# Altium schematic symbol library Schlib1.SchLib: 67 symbols (part 1 of 2)
Pins are listed as number, name and electrical type; pins without a type are passive.

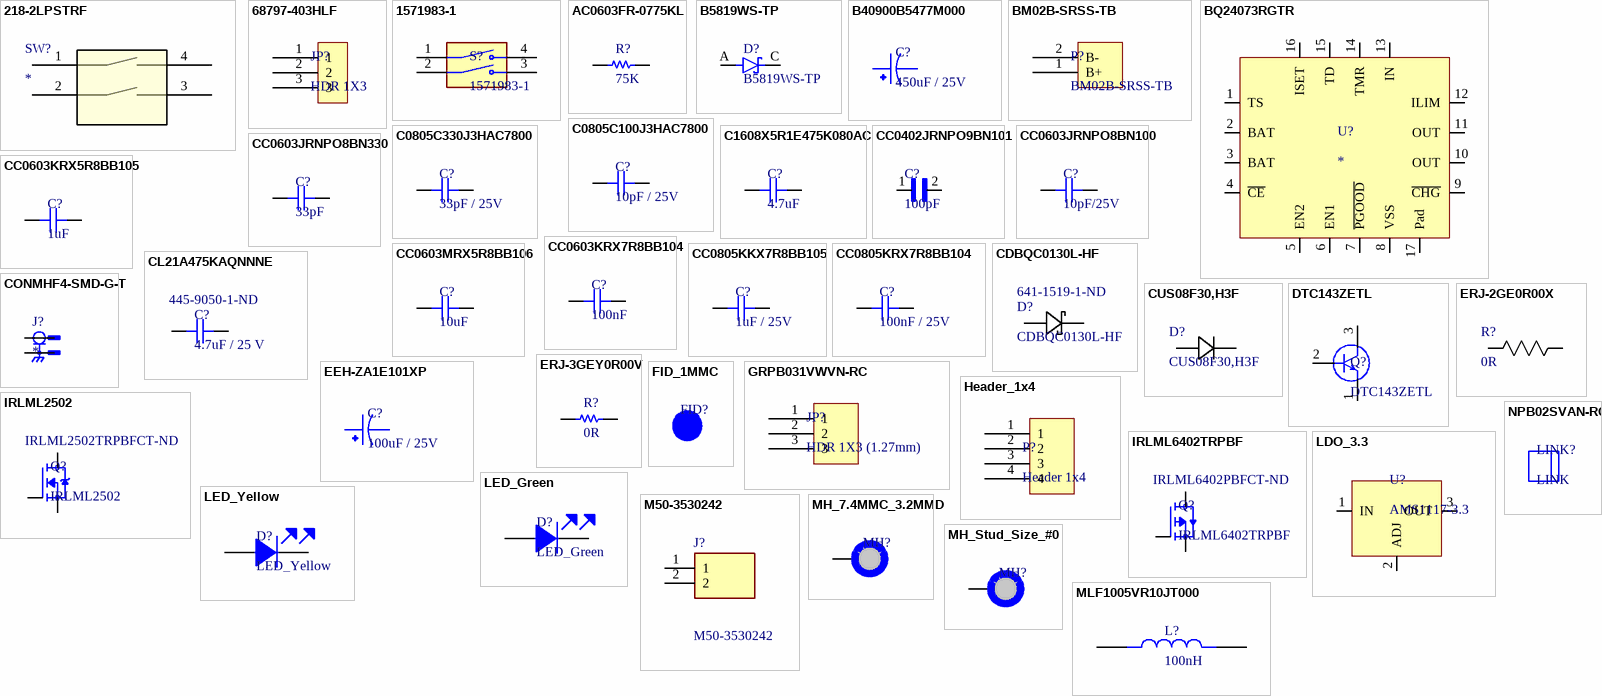
[diagram p0: symbols 218-2LPSTRF to NPB02SVAN-RC]

## 218-2LPSTRF
designator SW?
No Description Available; Mfr_Name: CTS Components; Type: DIP Switches; RefDes: RefDes
footprint 218-2-GULLWING_CTS
pins: 1, 2, 3, 4

## 68797-403HLF
designator JP?, comment HDR 1X3
Conn Unshrouded Header HDR 3 POS 2.54mm Solder ST Top Entry Thru-Hole BergStik® Bulk; Manufacturer: Amphenol ICC / FCI; Manufacturer Part Number: 68797-403HLF; Current Rating: 3A; Voltage Rating: 1.5kV; Number of Positions: 3; Insulation Resistance: 5GR; Gender: Male; Contact Post Length: 5.41mm; Supplier 1: Digikey; RoHS: Yes; Category: Connectors; Stock 1: 6537; Pricing 1: 1=0.26, 10=0.225, 100=0.1749, 500=0.14996, 1000=0.12496, 5000=0.10711, 10000=0.09997 (USD); Mount: Through Hole; Contact Material: Bronze; Contact Plating: Tin; Color: Black; Housing Color: Black; Housing Material: Thermoplastic; Min Operating Temperature: -65°C; Max Operating Temperature: 125°C; Number of Rows: 1; Contact Gender: Male; Packaging: Bulk; Package Quantity: 100; Termination: Solder; Number of Contacts: 3; Max Voltage Rating (AC): 1.5kV; Orientation: Straight; Series: BERGSTIK® II, MezzSelect™, Basics+; Contact Type: Male Pin; Length: 7.62mm; Pitch: 2.54mm; Contact Mating Length: 0.1inch; Depth: 2.41mm; Radiation Hardening: No; Flammability Rating: UL94 V-0; RoHS Compliant: Yes; ComponentLink1URL: http://components.arrow.com/part/dataview/42734829S8484744N8314?src-supplier=Arrow+Electronics; ComponentLink1Description: http://components.arrow.com/part/dataview/42734829S8484744N8314?src-supplier=Arrow+Electronics; ComponentLink2URL: http://www.mouser.com/ds/2/154/68000-274373.pdf?src-supplier=Mouser; ComponentLink2Description: http://www.mouser.com/ds/2/154/68000-274373.pdf?src-supplier=Mouser; ComponentLink3URL: http://portal.fciconnect.com/Comergent/fci/drawing/68000.pdf?src-supplier=Avnet; ComponentLink3Description: http://portal.fciconnect.com/Comergent/fci/drawing/68000.pdf?src-supplier=Avnet; Supplier Part Number 1: 609-68797-403HLF-ND
footprint Header_1x4_2.54mm
pins: 1, 2, 3

## 1571983-1
designator S?
Slide Dip Switch, 2 Switches, SPST, On-off, Latched, 0.1A, 50VDC, Solder Terminal, Panel Mount; Configuration_Pole-Throw: Single Pole - Single Throw; Contact_Current_Rating: .1 A; MF: TE Connectivity; Insulation Resistance: 100MR; Number of Circuits: 2NUMBER; Current Rating: 100mA; Row Spacing: 7.59mm; Switch_Type: DIP; SnapEDA_Link: https://www.snapeda.com/parts/1571983-1/TE+Connectivity+ALCOSWITCH+Switches/view-part/?ref=snap; Package: None; Value: *; MP: 1571983-1; Voltage_Rating: 50 VDC; Check_prices: https://www.snapeda.com/parts/1571983-1/TE+Connectivity+ALCOSWITCH+Switches/view-part/?ref=eda; Supplier 1: Digikey; Manufacturer: TE Connectivity; Manufacturer Part Number: 1571983-1; RoHS: Yes; Category: DIP Switches; Stock 1: 29284; Pricing 1: 1=2.12, 10=2.058, 25=1.872, 125=1.62624, 250=1.4738, 500=1.37216, 1000=1.27052, 2500=1.15194, 5000=1.06724 (USD); Reach SVHC Compliant: 4186SVHC; Supplier Part Number 1: 450-1431-ND
footprint SW_1571983-1
pins: 1 1A, 2 2A, 3 2B, 4 1B

## AC0603FR-0775KL
designator R?, comment 75K
SMD Chip Resistor, 75 kOhm, ± 1%, 100 mW, 0603 [1608 Metric], Thick Film, General Purpose; Manufacturer: Yageo; Manufacturer Part Number: AC0603FR-0775KL; Supplier 1: Digikey; RoHS: Yes; Category: Chip SMD Resistors; Stock 1: 529738; Pricing 1: 1=0.1, 10=0.021, 50=0.013, 100=0.0108, 500=0.00734, 1000=0.00633 (USD); Lead Free: 5697LeadFree; ComponentLink1URL: https://datasheet.ciiva.com/26862/getdatasheetpartid-715372-26862468.pdf?src-supplier=Verical; ComponentLink1Description: https://datasheet.ciiva.com/26862/getdatasheetpartid-715372-26862468.pdf?src-supplier=Verical; Supplier Part Number 1: YAG3629CT-ND
footprint R0603
pins: 1, 2

## B5819WS-TP
designator D?
Rectifier Diode, Schottky, 1 Phase, 1 Element, 1A, 40V V(RRM), Silicon; Manufacturer: MCC; Max Surge Current: 10A; Forward Voltage: 900mV; Max Reverse Leakage Current: 1mA; Capacitance: 48pF; Max Reverse Current: 7uA; Availability: Unavailable; MP: B5819WS-TP; Price: None; Value: *; Package: None; Supplier 1: Arrow Electronics; Manufacturer Part Number: B5819WS-TP; RoHS: Yes; Category: Rectifier Diodes; Stock 1: 42000; Pricing 1: 3000=0.0241 (USD); Mount: Surface Mount; Number of Pins: 2; Min Operating Temperature: -65°C; Max Operating Temperature: 125°C; Packaging: Tape and Reel; Average Rectified Current: 1A; Peak Non-Repetitive Surge Current: 10A; Max Reverse Voltage (DC): 40V; Series: -; Forward Current: 1A; Max Forward Surge Current (Ifsm): 10A; Reverse Voltage: 40V; Height: 1.15mm; Radiation Hardening: No; Lead Free: Lead Free; RoHS Compliant: Yes; ComponentLink1URL: https://datasheet.ciiva.com/4715/b5817ws-b5819wssod-323-48861-4715941.pdf?src-supplier=Mouser; ComponentLink1Description: https://datasheet.ciiva.com/4715/b5817ws-b5819wssod-323-48861-4715941.pdf?src-supplier=Mouser; ComponentLink2URL: https://datasheet.ciiva.com/15200/getdatasheetpartid-184930-15200423.pdf?src-supplier=Verical; ComponentLink2Description: https://datasheet.ciiva.com/15200/getdatasheetpartid-184930-15200423.pdf?src-supplier=Verical; ComponentLink3URL: https://datasheet.ciiva.com/912/b5817ws-b5819wssod-323-912736.pdf?src-supplier=Digikey; ComponentLink3Description: https://datasheet.ciiva.com/912/b5817ws-b5819wssod-323-912736.pdf?src-supplier=Digikey; ComponentLink4URL: https://datasheet.ciiva.com/912/b5817ws-b5819wssod-323-912737.pdf?src-supplier=Digikey; ComponentLink4Description: https://datasheet.ciiva.com/912/b5817ws-b5819wssod-323-912737.pdf?src-supplier=Digikey; ComponentLink5URL: https://datasheet.ciiva.com/912/b5817ws-b5819wssod-323-912735.pdf?src-supplier=Digikey; ComponentLink5Description: https://datasheet.ciiva.com/912/b5817ws-b5819wssod-323-912735.pdf?src-supplier=Digikey; Supplier Part Number 1: B5819WS-TP; Supplier 2: Digikey; Stock 2: 757540; Pricing 2: 1=0.27, 10=0.186, 100=0.0907, 500=0.07562, 1000=0.05254 (USD); Supplier Part Number 2: B5819WS-TPMSCT-ND
footprint SOD2512X115N
pins: A, C K

## B40900B5477M000
designator C?, comment 450uF / 25V
Capacitor Aluminum Polymer 470uF 25V 20% Radial Leaded PC Pin 3.2A 4000hr 125°C T/R; Manufacturer: TDK; Manufacturer Part Number: B40900B5477M000; ESR (Equivalent Series Resistance): 18mR; Supplier 1: Digikey; RoHS: Yes; Category: Polymer Capacitors; Stock 1: 10440; Pricing 1: 1=2.22, 10=1.702, 50=1.5638, 100=1.2966 (USD); Mount: Surface Mount; Case/Package: Radial; Min Operating Temperature: -40°C; Max Operating Temperature: 125°C; Series: B40900; Tolerance: 20%; Capacitance: 470uF; Voltage Rating: 25V; Length: 12.5mm; Ratings: AEC-Q200; RoHS Compliant: Yes; Supplier Part Number 1: 495-B40900B5477M000CT-ND
footprint CAP_B40900B5477M000
pins: 1 P, 2 N

## BM02B-SRSS-TB
designator P?
CONN HEADER SH 2POS TOP 1MM TIN; Manufacturer: JST; Number of Positions: 2; Pitch: 0.039inch; Supplier 1: Digikey; Manufacturer Part Number: BM02B-SRSS-TB; RoHS: Yes; Category: Headers and Wire Housings; Stock 1: 56625; Pricing 1: 1=0.45, 10=0.395, 100=0.3253, 500=0.28286 (USD); Mount: Surface Mount; Color: Natural; Contact Plating: Tin,Lead; Contact Material: Copper Alloy; Housing Color: Natural; Housing Material: Nylon; Number of Rows: 1; Termination: Solder; Orientation: Vertical; Series: SR; Package Quantity: 1; Packaging: Cut Tape; Contact Type: Male Pin; Number of Contacts: 2; Lead Free: Contains Lead; ComponentLink1URL: https://datasheet.ciiva.com/6892/srconnector-6892266.pdf?src-supplier=Digikey; ComponentLink1Description: https://datasheet.ciiva.com/6892/srconnector-6892266.pdf?src-supplier=Digikey; ComponentLink2URL: https://datasheet.ciiva.com/6892/srconnector-6892264.pdf?src-supplier=Digikey; ComponentLink2Description: https://datasheet.ciiva.com/6892/srconnector-6892264.pdf?src-supplier=Digikey; Supplier Part Number 1: 455-1788-1-ND
footprint BM02B-SRSS-TB
pins: 1 B+, 2 B-

## BQ24073RGTR
designator U?
1.5A USB-FRIENDLY Li-Ion BATTERY CHARGER AND POWER-PATH MANAGEMENT IC
footprint bq24073 (QFN, 16-Leads, Body 3.00x3.00mm, Pitch 0.50mm, Thermal Pad 1.70x1.70mm, IPC Medium Density)
pins: 1 TS, 2 BAT, 3 BAT, 4 ~{CE}, 5 EN2, 6 EN1, 7 ~{PGOOD}, 8 VSS, 9 ~{CHG}, 10 OUT, 11 OUT, 12 ILIM, 13 IN, 14 TMR, 15 TD, 16 ISET, 17 Pad

## C0805C100J3HAC7800
designator C?, comment 10pF / 25V
Cap Cer 0805 10PF 25V Ultra Stab; Manufacturer: KEMET; Manufacturer Part Number: C0805C100J3HAC7800; Supplier 1: Digikey; RoHS: No; Category: Ceramic Capacitors; Stock 1: 20028; Pricing 1: 1=0.1, 10=0.069, 50=0.0394, 100=0.0305, 500=0.02298, 1000=0.01805 (USD); Supplier Part Number 1: 399-C0805C100J3HAC7800CT-ND
footprint C0805
pins: 1, 2

## C0805C330J3HAC7800
designator C?, comment 33pF / 25V
CAP CER 33PF 25V X8R 0805; Manufacturer: KEMET; Manufacturer Part Number: C0805C330J3HAC7800; Supplier 1: Digikey; RoHS: No; Category: Ceramic Capacitors; Stock 1: 11940; Pricing 1: 1=0.1, 10=0.07, 50=0.04, 100=0.031, 500=0.02334, 1000=0.01833 (USD); Supplier Part Number 1: 399-C0805C330J3HAC7800CT-ND
footprint C0805
pins: 1, 2

## C1608X5R1E475K080AC
designator C?, comment 4.7uF
Multilayer Ceramic Capacitor, 4.7 uF, 25 V, ± 10%, X5R, 0603 [1608 Metric]
footprint C0603
pins: 1, 2

## CC0402JRNPO9BN101
designator C?, comment 100pF
Multilayer Ceramic Capacitor, 100 pF, 50 V, ± 5%, C0G (NP0), 0402 [1005 Metric]; Manufacturer: Yageo; MP: CC0402JRNPO9BN101; Voltage Rating: 50V; Temperature Coefficient: 30ppm/°C; Package: None; Price: None; Value: *; Availability: Unavailable; Supplier 1: Digikey; Manufacturer Part Number: CC0402JRNPO9BN101; RoHS: Yes; Category: Ceramic Capacitors; Stock 1: 8990540; Pricing 1: 1=0.1, 10=0.017, 50=0.0096, 100=0.0074, 500=0.00554, 1000=0.00436, 2500=0.00396, 5000=0.00365 (USD); Mount: Surface Mount; Case/Package: 0402; Number of Pins: 2; Case Code (Imperial): 0402; Case Code (Metric): 1005; Min Operating Temperature: -55°C; Max Operating Temperature: 125°C; Tolerance: 5%; Capacitance: 100pF; Dielectric: C0G; Voltage Rating (DC): 50V; Packaging: Tape and Reel; Package Quantity: 1; Termination: SMD/SMT; Voltage: 50V; Series: CC; Length: 1mm; Width: 0.02inch; Height: 0.5mm; Thickness: 0.022inch; Depth: 0.5mm; Radiation Hardening: No; RoHS Compliant: Yes; Reach SVHC Compliant: No; ComponentLink1URL: https://datasheet.ciiva.com/11786/0900766b80d84fbf-11786101.pdf?src-supplier=Rs; ComponentLink1Description: https://datasheet.ciiva.com/11786/0900766b80d84fbf-11786101.pdf?src-supplier=Rs; ComponentLink2URL: https://datasheet.ciiva.com/23767/25787-23767888.pdf?src-supplier=Newark; ComponentLink2Description: https://datasheet.ciiva.com/23767/25787-23767888.pdf?src-supplier=Newark; ComponentLink3URL: https://datasheet.ciiva.com/8033/1443161-8033598.pdf?src-supplier=Element14; ComponentLink3Description: https://datasheet.ciiva.com/8033/1443161-8033598.pdf?src-supplier=Element14; ComponentLink4URL: https://datasheet.ciiva.com/28450/1443161-28450220.pdf?src-supplier=Element14; ComponentLink4Description: https://datasheet.ciiva.com/28450/1443161-28450220.pdf?src-supplier=Element14; ComponentLink5URL: https://datasheet.ciiva.com/143/mlccorderingcode-143990.pdf?src-supplier=Digikey; ComponentLink5Description: https://datasheet.ciiva.com/143/mlccorderingcode-143990.pdf?src-supplier=Digikey; ComponentLink6URL: https://datasheet.ciiva.com/143/mlccorderingcode-143989.pdf?src-supplier=Digikey; ComponentLink6Description: https://datasheet.ciiva.com/143/mlccorderingcode-143989.pdf?src-supplier=Digikey; ComponentLink7URL: https://datasheet.ciiva.com/143/mlccorderingcode-143991.pdf?src-supplier=Digikey; ComponentLink7Description: https://datasheet.ciiva.com/143/mlccorderingcode-143991.pdf?src-supplier=Digikey; Supplier Part Number 1: 311-1024-1-ND
footprint CAPC1005X55N
pins: 1, 2

## CC0603JRNPO8BN100
designator C?, comment 10pF/25V
Surface Mount Ceramic Multilayer Capacitor 10pF 5% C0G 25V 0603 Paper T/R; Manufacturer: Yageo; Manufacturer Part Number: CC0603JRNPO8BN100; Supplier 1: Digikey; RoHS: Yes; Category: Ceramic Capacitors; Stock 1: 12320; Pricing 1: 1=0.1, 10=0.049, 50=0.028, 100=0.0217, 500=0.0163, 1000=0.0128 (USD); Supplier Part Number 1: 13-CC0603JRNPO8BN100CT-ND
footprint C0603
pins: 1, 2

## CC0603JRNPO8BN330
designator C?, comment 33pF
CAP CER 33PF 25V NPO 0603; Manufacturer: Yageo; Manufacturer Part Number: CC0603JRNPO8BN330; Tolerance: 5%; Dielectric: C0G; Supplier 1: Digikey; RoHS: Yes; Category: Ceramic Capacitors; Stock 1: 18128; Pricing 1: 1=0.1, 10=0.049, 50=0.028, 100=0.0217, 500=0.0163, 1000=0.0128 (USD); Mount: Surface Mount; Case/Package: 0603; Case Code (Imperial): 0603; Case Code (Metric): 1608; Min Operating Temperature: -55°C; Max Operating Temperature: 125°C; Capacitance: 33pF; Voltage Rating (DC): 25V; Packaging: Tape and Reel; Voltage Rating: 25V; Series: CC; Length: 0.063inch; Width: 0.031inch; Thickness: 0.035inch; RoHS Compliant: Yes; ComponentLink1URL: https://datasheet.ciiva.com/13210/upy-gp-np0-16v-to-50v-8-13210829.pdf?src-supplier=Mouser; ComponentLink1Description: https://datasheet.ciiva.com/13210/upy-gp-np0-16v-to-50v-8-13210829.pdf?src-supplier=Mouser; Supplier Part Number 1: 311-3954-1-ND
footprint C0603
pins: 1, 2

## CC0603KRX5R8BB105
designator C?, comment 1uF
Multilayer Ceramic Capacitor, 1 uF, 25 V, ± 10%, X5R, 0603 [1608 Metric]; Manufacturer: Yageo; Manufacturer Part Number: CC0603KRX5R8BB105; Material: 4241ConductorMaterial; Voltage Rating: 25V; Supplier 1: Digikey; RoHS: Yes; Category: Ceramic Capacitors; Stock 1: 2493288; Pricing 1: 1=0.1, 10=0.07, 50=0.0418, 100=0.0329, 500=0.02428, 1000=0.0201 (USD); Mount: Surface Mount; Case/Package: 0603; Number of Pins: 2; Case Code (Metric): 1608; Case Code (Imperial): 0603; Min Operating Temperature: -55°C; Max Operating Temperature: 85°C; Capacitance: 1uF; Tolerance: 10%; Dielectric: X5R; Packaging: Tape and Reel; Termination: SMD/SMT; Series: CC; Construction: Flat; Voltage Rating (DC): 25V; Length: 1.6mm; Height: 0.8mm; Depth: 0.8mm; Radiation Hardening: No; Reach SVHC Compliant: No; RoHS Compliant: Yes; Halogen Free: 5694HalogenFree; Lead Free: 5697LeadFree; ComponentLink1URL: https://datasheet.ciiva.com/7978/1525783-7978171.pdf?src-supplier=Element14; ComponentLink1Description: https://datasheet.ciiva.com/7978/1525783-7978171.pdf?src-supplier=Element14; ComponentLink2URL: https://datasheet.ciiva.com/176/mlccorderingcode-176786.pdf?src-supplier=Digikey; ComponentLink2Description: https://datasheet.ciiva.com/176/mlccorderingcode-176786.pdf?src-supplier=Digikey; ComponentLink3URL: https://datasheet.ciiva.com/176/mlccorderingcode-176785.pdf?src-supplier=Digikey; ComponentLink3Description: https://datasheet.ciiva.com/176/mlccorderingcode-176785.pdf?src-supplier=Digikey; ComponentLink4URL: https://datasheet.ciiva.com/176/mlccorderingcode-176787.pdf?src-supplier=Digikey; ComponentLink4Description: https://datasheet.ciiva.com/176/mlccorderingcode-176787.pdf?src-supplier=Digikey; ComponentLink5URL: https://datasheet.ciiva.com/11586/upy-gphc-x5r-4v-to-50v-12-11586318.pdf?src-supplier=Avnet; ComponentLink5Description: https://datasheet.ciiva.com/11586/upy-gphc-x5r-4v-to-50v-12-11586318.pdf?src-supplier=Avnet; Supplier Part Number 1: 311-1445-1-ND
footprint C0603
pins: 1, 2

## CC0603KRX7R8BB104
designator C?, comment 100nF
Multilayer Ceramic Capacitor, 0.1 uF, 25 V, ± 10%, X7R, 0603 [1608 Metric]; Manufacturer: Yageo; Manufacturer Part Number: CC0603KRX7R8BB104; Material: 4241ConductorMaterial; Voltage Rating: 25V; Supplier 1: Digikey; RoHS: Yes; Category: Ceramic Capacitors; Stock 1: 3824386; Pricing 1: 1=0.1, 10=0.042, 50=0.0238, 100=0.0185, 500=0.01392, 1000=0.01094 (USD); Mount: Surface Mount; Case/Package: 0603; Number of Pins: 2; Case Code (Imperial): 0603; Case Code (Metric): 1608; Min Operating Temperature: -55°C; Max Operating Temperature: 125°C; Capacitance: 100nF; Tolerance: 10%; Dielectric: X7R; Packaging: Tape and Reel; Package Quantity: 1; Voltage Rating (DC): 25V; Termination: SMD/SMT; Voltage: 25V; Series: CC; Length: 1.6mm; Width: 0.031inch; Height: 0.8mm; Thickness: 0.035inch; Depth: 0.8mm; Radiation Hardening: No; RoHS Compliant: Yes; Reach SVHC Compliant: Unknown; Halogen Free: 5694HalogenFree; Lead Free: 5697LeadFree; ComponentLink1URL: https://datasheet.ciiva.com/144/mlccorderingcode-144075.pdf?src-supplier=Digikey; ComponentLink1Description: https://datasheet.ciiva.com/144/mlccorderingcode-144075.pdf?src-supplier=Digikey; ComponentLink2URL: https://datasheet.ciiva.com/11786/0900766b80c10176-11786120.pdf?src-supplier=Rs; ComponentLink2Description: https://datasheet.ciiva.com/11786/0900766b80c10176-11786120.pdf?src-supplier=Rs; ComponentLink3URL: https://datasheet.ciiva.com/13389/upy-gphc-x7r-6-3v-to-50v-8-13389352.pdf?src-supplier=Mouser; ComponentLink3Description: https://datasheet.ciiva.com/13389/upy-gphc-x7r-6-3v-to-50v-8-13389352.pdf?src-supplier=Mouser; ComponentLink4URL: https://datasheet.ciiva.com/7978/1489800-7978155.pdf?src-supplier=Element14; ComponentLink4Description: https://datasheet.ciiva.com/7978/1489800-7978155.pdf?src-supplier=Element14; ComponentLink5URL: https://datasheet.ciiva.com/28450/1489800-28450584.pdf?src-supplier=Element14; ComponentLink5Description: https://datasheet.ciiva.com/28450/1489800-28450584.pdf?src-supplier=Element14; ComponentLink6URL: https://datasheet.ciiva.com/144/mlccorderingcode-144074.pdf?src-supplier=Digikey; ComponentLink6Description: https://datasheet.ciiva.com/144/mlccorderingcode-144074.pdf?src-supplier=Digikey; ComponentLink7URL: https://datasheet.ciiva.com/144/mlccorderingcode-144073.pdf?src-supplier=Digikey; ComponentLink7Description: https://datasheet.ciiva.com/144/mlccorderingcode-144073.pdf?src-supplier=Digikey; ComponentLink8URL: https://datasheet.ciiva.com/11587/upy-gphc-x7r-6-3v-to-50v-8-11587208.pdf?src-supplier=Avnet; ComponentLink8Description: https://datasheet.ciiva.com/11587/upy-gphc-x7r-6-3v-to-50v-8-11587208.pdf?src-supplier=Avnet; ComponentLink9URL: https://datasheet.ciiva.com/26829/getdatasheetpartid-403577-26829431.pdf?src-supplier=Verical; ComponentLink9Description: https://datasheet.ciiva.com/26829/getdatasheetpartid-403577-26829431.pdf?src-supplier=Verical; Supplier Part Number 1: 311-1341-1-ND
footprint C0603
pins: 1, 2

## CC0603MRX5R8BB106
designator C?, comment 10uF
Multilayer Ceramic Capacitor, 10 uF, 25 V, ± 20%, X5R, 0603 [1608 Metric]; Manufacturer: Yageo; Manufacturer Part Number: CC0603MRX5R8BB106; Voltage Rating: 25V; Dielectric: 1537DielectricType; Supplier 1: Digikey; RoHS: Yes; Category: Ceramic Capacitors; Stock 1: 17488; Pricing 1: 1=0.68, 10=0.474, 50=0.3988, 100=0.3248, 500=0.27068, 1000=0.22794 (USD); Mount: Surface Mount; Case/Package: 0603; Case Code (Imperial): 0603; Case Code (Metric): 1608; Min Operating Temperature: -55°C; Max Operating Temperature: 85°C; Packaging: Cut Tape; Capacitance: 10uF; Tolerance: 20%; Series: CC; Voltage Rating (DC): 25V; RoHS Compliant: Yes; Halogen Free: 5694HalogenFree; Lead Free: 5697LeadFree; ComponentLink1URL: https://www.yageo.com/upload/media/product/productsearch/datasheet/mlcc/UPY-GPHC_X5R_4V-to-50V_26.pdf?src-supplier=Digikey; ComponentLink1Description: https://www.yageo.com/upload/media/product/productsearch/datasheet/mlcc/UPY-GPHC_X5R_4V-to-50V_26.pdf?src-supplier=Digikey; Supplier Part Number 1: 311-3494-1-ND
footprint C0603
pins: 1, 2

## CC0805KKX7R8BB105
designator C?, comment 1uF / 25V
Multilayer Ceramic Capacitor, 1 uF, 25 V, ± 10%, X7R, 0805 [2012 Metric]; Manufacturer: Yageo; Manufacturer Part Number: CC0805KKX7R8BB105; Material: 4241ConductorMaterial; Supplier 1: Digikey; RoHS: Yes; Category: Ceramic Capacitors; Stock 1: 95511; Pricing 1: 1=0.14, 10=0.098, 50=0.0584, 100=0.0459, 500=0.03388, 1000=0.02805 (USD); ComponentLink1URL: https://datasheet.ciiva.com/5427/upy-gp-np0-16v-to-50v-8-5427414.pdf?src-supplier=Mouser; ComponentLink1Description: https://datasheet.ciiva.com/5427/upy-gp-np0-16v-to-50v-8-5427414.pdf?src-supplier=Mouser; ComponentLink2URL: https://datasheet.ciiva.com/28450/1489800-28450764.pdf?src-supplier=Element14; ComponentLink2Description: https://datasheet.ciiva.com/28450/1489800-28450764.pdf?src-supplier=Element14; ComponentLink3URL: https://datasheet.ciiva.com/7978/1489800-7978205.pdf?src-supplier=Element14; ComponentLink3Description: https://datasheet.ciiva.com/7978/1489800-7978205.pdf?src-supplier=Element14; ComponentLink4URL: https://datasheet.ciiva.com/176/mlccorderingcode-176960.pdf?src-supplier=Digikey; ComponentLink4Description: https://datasheet.ciiva.com/176/mlccorderingcode-176960.pdf?src-supplier=Digikey; ComponentLink5URL: https://datasheet.ciiva.com/176/mlccorderingcode-176961.pdf?src-supplier=Digikey; ComponentLink5Description: https://datasheet.ciiva.com/176/mlccorderingcode-176961.pdf?src-supplier=Digikey; ComponentLink6URL: https://datasheet.ciiva.com/176/mlccorderingcode-176962.pdf?src-supplier=Digikey; ComponentLink6Description: https://datasheet.ciiva.com/176/mlccorderingcode-176962.pdf?src-supplier=Digikey; Supplier Part Number 1: 311-1456-1-ND
footprint C0805
pins: 1, 2

## CC0805KRX7R8BB104
designator C?, comment 100nF / 25V
Multilayer Ceramic Capacitor, 0.1 uF, 25 V, ± 10%, X7R, 0805 [2012 Metric]; Manufacturer: Yageo; Manufacturer Part Number: CC0805KRX7R8BB104; Supplier 1: Digikey; RoHS: Yes; Category: Ceramic Capacitors; Stock 1: 201020; Pricing 1: 1=0.11, 10=0.073, 50=0.0438, 100=0.0344, 500=0.02542, 1000=0.02104 (USD); ComponentLink1URL: https://datasheet.ciiva.com/8034/1784427-8034030.pdf?src-supplier=Element14; ComponentLink1Description: https://datasheet.ciiva.com/8034/1784427-8034030.pdf?src-supplier=Element14; ComponentLink2URL: https://datasheet.ciiva.com/28450/1489800-28450789.pdf?src-supplier=Element14; ComponentLink2Description: https://datasheet.ciiva.com/28450/1489800-28450789.pdf?src-supplier=Element14; ComponentLink3URL: https://datasheet.ciiva.com/8034/1784427-8034029.pdf?src-supplier=Element14; ComponentLink3Description: https://datasheet.ciiva.com/8034/1784427-8034029.pdf?src-supplier=Element14; ComponentLink4URL: https://datasheet.ciiva.com/8034/70765-8034031.pdf?src-supplier=Element14; ComponentLink4Description: https://datasheet.ciiva.com/8034/70765-8034031.pdf?src-supplier=Element14; ComponentLink5URL: https://datasheet.ciiva.com/46430/1850775-46430166.pdf?src-supplier=Element14; ComponentLink5Description: https://datasheet.ciiva.com/46430/1850775-46430166.pdf?src-supplier=Element14; ComponentLink6URL: https://datasheet.ciiva.com/15189/getdatasheetpartid-330244-15189223.pdf?src-supplier=Verical; ComponentLink6Description: https://datasheet.ciiva.com/15189/getdatasheetpartid-330244-15189223.pdf?src-supplier=Verical; ComponentLink7URL: https://datasheet.ciiva.com/145/mlccorderingcode-145007.pdf?src-supplier=Digikey; ComponentLink7Description: https://datasheet.ciiva.com/145/mlccorderingcode-145007.pdf?src-supplier=Digikey; ComponentLink8URL: https://datasheet.ciiva.com/145/mlccorderingcode-145008.pdf?src-supplier=Digikey; ComponentLink8Description: https://datasheet.ciiva.com/145/mlccorderingcode-145008.pdf?src-supplier=Digikey; ComponentLink9URL: https://datasheet.ciiva.com/145/mlccorderingcode-145009.pdf?src-supplier=Digikey; ComponentLink9Description: https://datasheet.ciiva.com/145/mlccorderingcode-145009.pdf?src-supplier=Digikey; Supplier Part Number 1: 311-1141-1-ND
footprint C0805
pins: 1, 2

## CDBQC0130L-HF
designator D?  Supplier Part Number 1: 641-1519-1-ND
Rectifier Diode Schottky 35V 0.1A 2-Pin SOD-923F T/R; Mfr_Name: Comchip; Average Rectified Current: 100mA; Max Reverse Voltage (DC): 30V; Supplier 1: Digikey; Manufacturer: Comchip; Manufacturer Part Number: CDBQC0130L-HF; RoHS: Yes; Category: Rectifier Diodes; Stock 1: 109193; Pricing 1: 1=0.34, 10=0.236, 100=0.1192, 500=0.09722, 1000=0.07213, 2000=0.06069 (USD); Mount: Surface Mount; Case/Package: 0402; Case Code (Metric): 1005; Case Code (Imperial): 0402; Packaging: Cut Tape; Series: -; RoHS Compliant: Yes; ComponentLink1URL: http://www.comchiptech.com/cms/UserFiles/CDBQC0130L-HF%20RevC738209.pdf?src-supplier=Arrow+Electronics; ComponentLink1Description: http://www.comchiptech.com/cms/UserFiles/CDBQC0130L-HF%20RevC738209.pdf?src-supplier=Arrow+Electronics; ComponentLink2URL: http://www.comchiptech.com/cms/UserFiles/CDBQC0130L-HF%20RevC738209.pdf?src-supplier=Mouser; ComponentLink2Description: http://www.comchiptech.com/cms/UserFiles/CDBQC0130L-HF%20RevC738209.pdf?src-supplier=Mouser; ComponentLink3URL: http://www.comchiptech.com/cms/UserFiles/CDBQC0130L-HF%20RevC738209.pdf?src-supplier=Verical; ComponentLink3Description: http://www.comchiptech.com/cms/UserFiles/CDBQC0130L-HF%20RevC738209.pdf?src-supplier=Verical; ComponentLink4URL: http://www.comchiptech.com/cms/UserFiles/CDBQC0130L-HF%20RevB681116.pdf?src-supplier=Digikey; ComponentLink4Description: http://www.comchiptech.com/cms/UserFiles/CDBQC0130L-HF%20RevB681116.pdf?src-supplier=Digikey; ComponentLink5URL: http://www.comchiptech.com/admin/files/product/CDBQC0130L-HF RevB681116.pdf?src-supplier=Digikey; ComponentLink5Description: http://www.comchiptech.com/admin/files/product/CDBQC0130L-HF RevB681116.pdf?src-supplier=Digikey; ComponentLink6URL: http://www.comchiptech.com/cms/UserFiles/CDBQC0130L-HF%20RevC738209.pdf?src-supplier=NAC+Semi; ComponentLink6Description: http://www.comchiptech.com/cms/UserFiles/CDBQC0130L-HF%20RevC738209.pdf?src-supplier=NAC+Semi
footprint SDO_0402CSOD-923F_CIP
pins: 1, 2

## CL21A475KAQNNNE
designator C?, comment 4.7uF / 25 V  Supplier Part Number 2: 445-9050-1-ND
Multilayer Ceramic Capacitor, 4.7 uF, 25 V, ± 10%, X5R, 0603 [1608 Metric]; Manufacturer: Samsung; Manufacturer Part Number: CL21A475KAQNNNE; Voltage Rating: 25V; Supplier 1: Digikey; RoHS: Yes; Category: Ceramic Capacitors; Stock 1: 3225336; Pricing 1: 1=0.1, 10=0.069, 50=0.0414, 100=0.0326, 500=0.02408, 1000=0.01994 (USD); Mount: Surface Mount; Case/Package: 0805; Case Code (Metric): 2012; Case Code (Imperial): 0805; Material: Ceramic; Min Operating Temperature: -55°C; Max Operating Temperature: 85°C; Packaging: Tape and Reel; Capacitance: 4.7uF; Tolerance: 10%; Dielectric: X5R; Voltage Rating (DC): 25V; Series: CL; Construction: Flat; Length: 2mm; Height: 1.25mm; Depth: 1.25mm; Radiation Hardening: No; Lead Free: Lead Free; RoHS Compliant: Yes; ComponentLink1URL: https://datasheet.ciiva.com/25798/cl21a475kaqnnne-25798882.pdf?src-supplier=Digikey; ComponentLink1Description: https://datasheet.ciiva.com/25798/cl21a475kaqnnne-25798882.pdf?src-supplier=Digikey; Supplier Part Number 1: 1276-1244-1-ND; Supplier 2: Digikey; Stock 2: 2493339; Pricing 2: 1=0.19, 10=0.123, 50=0.0864, 100=0.0697, 500=0.0518, 1000=0.04533 (USD); ComponentLink2URL: https://datasheet.ciiva.com/24216/mlcc-commercial-general-en-24216326.pdf?src-supplier=Mouser; ComponentLink2Description: https://datasheet.ciiva.com/24216/mlcc-commercial-general-en-24216326.pdf?src-supplier=Mouser; ComponentLink3URL: https://datasheet.ciiva.com/48671/mlcc-commercial-general-en-48671304.pdf?src-supplier=Avnet; ComponentLink3Description: https://datasheet.ciiva.com/48671/mlcc-commercial-general-en-48671304.pdf?src-supplier=Avnet; ComponentLink4URL: https://datasheet.ciiva.com/48587/6print-detail-pdf-phplangenpart-noc1608x5r1e475k080acimp-unit-xmhz-48587141.pdf?src-supplier=Onlinecomponents.com; ComponentLink4Description: https://datasheet.ciiva.com/48587/6print-detail-pdf-phplangenpart-noc1608x5r1e475k080acimp-unit-xmhz-48587141.pdf?src-supplier=Onlinecomponents.com
footprint C0805
pins: 1, 2

## CONMHF4-SMD-G-T
designator J?
MHF4 Jack 50 Ohm PCB Surface Mount; MF: Linx Technologies Inc.; MP: CONMHF4-SMD-G-T; SnapEDA_Link: https://www.snapeda.com/parts/CONMHF4-SMD-G-T/Linx/view-part/?ref=snap; Package: None; Value: *; Check_prices: https://www.snapeda.com/parts/CONMHF4-SMD-G-T/Linx/view-part/?ref=eda; ComponentLink1Description: Supplier Links; ComponentLink1URL: https://www.digikey.com/en/products/detail/te-connectivity-linx/CONMHF4-SMD-G-T/15293390
footprint LINX_CONMHF4-SMD-G-T
pins: 1, S1 2, S2 2, S3 2

## CUS08F30,H3F
designator D?
DIODE SCHOTTKY 30V 800MA USC; Mfr_Name: Toshiba Electronic Devices & Storage Corp.; Manufacturer: Toshiba; Peak Non-Repetitive Surge Current: 5A; Max Reverse Current: 50uA; Supplier 1: Digikey; Manufacturer Part Number: CUS08F30,H3F; RoHS: Yes; Category: Rectifier Diodes; Stock 1: 813980; Pricing 1: 1=0.32, 10=0.22, 100=0.1072, 500=0.08944, 1000=0.06215 (USD); Mount: Surface Mount; Case/Package: SOD; Number of Pins: 2; Contact Plating: Tin,Silver; Min Operating Temperature: -55°C; Max Operating Temperature: 125°C; Packaging: Cut Tape; Average Rectified Current: 800mA; Max Repetitive Reverse Voltage (Vrrm): 30V; Max Reverse Voltage (DC): 30V; Series: -; RoHS Compliant: Yes; ComponentLink1URL: http://toshiba.semicon-storage.com/info/lookup.jsp?pid=CUS08F30&amp;lang=en&src-supplier=Mouser; ComponentLink1Description: http://toshiba.semicon-storage.com/info/lookup.jsp?pid=CUS08F30&amp;lang=en&src-supplier=Mouser; ComponentLink2URL: http://toshiba.semicon-storage.com/info/docget.jsp?type=datasheet&lang=en&pid=CUS08F30&src-supplier=Avnet; ComponentLink2Description: http://toshiba.semicon-storage.com/info/docget.jsp?type=datasheet&lang=en&pid=CUS08F30&src-supplier=Avnet; ComponentLink3URL: https://toshiba.semicon-storage.com/info/docget.jsp?did=9019&prodName=CUS08F30&src-supplier=Digikey; ComponentLink3Description: https://toshiba.semicon-storage.com/info/docget.jsp?did=9019&prodName=CUS08F30&src-supplier=Digikey; Supplier Part Number 1: CUS08F30H3FCT-ND
footprint USC_TOS
pins: 1 cathode, 2 anode

## DTC143ZETL
designator Q?
NPN Ic=100mA Vceo=50V fT=250MHz P=150mW; Manufacturer: Rohm; Supplier 1: Digikey; Manufacturer Part Number: DTC143ZETL; RoHS: Yes; Category: BJTs; Stock 1: 64330; Pricing 1: 1=0.35, 10=0.243, 100=0.1228, 500=0.1002, 1000=0.07434 (USD); ComponentLink1URL: https://datasheet.ciiva.com/988/dtc143z-988064.pdf?src-supplier=Digikey; ComponentLink1Description: https://datasheet.ciiva.com/988/dtc143z-988064.pdf?src-supplier=Digikey; ComponentLink2URL: https://datasheet.ciiva.com/5781/dtc143ze-5781998.pdf?src-supplier=Farnell; ComponentLink2Description: https://datasheet.ciiva.com/5781/dtc143ze-5781998.pdf?src-supplier=Farnell; ComponentLink3URL: https://datasheet.ciiva.com/988/dtc143z-988062.pdf?src-supplier=Digikey; ComponentLink3Description: https://datasheet.ciiva.com/988/dtc143z-988062.pdf?src-supplier=Digikey; ComponentLink4URL: https://datasheet.ciiva.com/988/dtc143z-988063.pdf?src-supplier=Digikey; ComponentLink4Description: https://datasheet.ciiva.com/988/dtc143z-988063.pdf?src-supplier=Digikey; Supplier Part Number 1: DTC143ZETLCT-ND
footprint TRANS_2SK3019TL
pins: 1 E, 2 B, 3 C

## EEH-ZA1E101XP
designator C?, comment 100uF / 25V
Cap Aluminum 100uF 25V 20% (6.3 X 7.7mm) SMD 0.03 Ohm 2000mA 5000h 105 C Embossed T/R; Manufacturer: Panasonic; Manufacturer Part Number: EEH-ZA1E101XP; Dissipation Factor: 14%; Supplier 1: Digikey; RoHS: Yes; Category: Polymer Capacitors; Stock 1: 19502; Pricing 1: 1=1.27, 10=0.952, 50=0.869, 100=0.7119 (USD); ComponentLink1URL: https://datasheet.ciiva.com/14818/86aba0000ce136-14818650.pdf?src-supplier=Arrow+Electronics; ComponentLink1Description: https://datasheet.ciiva.com/14818/86aba0000ce136-14818650.pdf?src-supplier=Arrow+Electronics; ComponentLink2URL: https://datasheet.ciiva.com/25614/0900766b81233638-25614238.pdf?src-supplier=Rs; ComponentLink2Description: https://datasheet.ciiva.com/25614/0900766b81233638-25614238.pdf?src-supplier=Rs; ComponentLink3URL: https://datasheet.ciiva.com/6134/1536543-6134360.pdf?src-supplier=Farnell; ComponentLink3Description: https://datasheet.ciiva.com/6134/1536543-6134360.pdf?src-supplier=Farnell; ComponentLink4URL: https://datasheet.ciiva.com/48540/eehza-eng-tds-48540972.pdf?src-supplier=Distrelec; ComponentLink4Description: https://datasheet.ciiva.com/48540/eehza-eng-tds-48540972.pdf?src-supplier=Distrelec; ComponentLink5URL: https://datasheet.ciiva.com/6303/aba0000ce136-6303802.pdf?src-supplier=Digikey; ComponentLink5Description: https://datasheet.ciiva.com/6303/aba0000ce136-6303802.pdf?src-supplier=Digikey; ComponentLink6URL: https://datasheet.ciiva.com/6303/aba0000ce136-6303804.pdf?src-supplier=Digikey; ComponentLink6Description: https://datasheet.ciiva.com/6303/aba0000ce136-6303804.pdf?src-supplier=Digikey; ComponentLink7URL: https://datasheet.ciiva.com/6303/aba0000ce136-6303805.pdf?src-supplier=Digikey; ComponentLink7Description: https://datasheet.ciiva.com/6303/aba0000ce136-6303805.pdf?src-supplier=Digikey; ComponentLink8URL: https://datasheet.ciiva.com/7902/1536543-7902997.pdf?src-supplier=Element14; ComponentLink8Description: https://datasheet.ciiva.com/7902/1536543-7902997.pdf?src-supplier=Element14; ComponentLink9URL: https://datasheet.ciiva.com/14604/70314667-14604008.pdf?src-supplier=Allied+Electronics; ComponentLink9Description: https://datasheet.ciiva.com/14604/70314667-14604008.pdf?src-supplier=Allied+Electronics; ComponentLink10URL: https://datasheet.ciiva.com/32372/86aba0000ce136-32372459.pdf?src-supplier=Onlinecomponents.com; ComponentLink10Description: https://datasheet.ciiva.com/32372/86aba0000ce136-32372459.pdf?src-supplier=Onlinecomponents.com; Supplier Part Number 1: P15436CT-ND
footprint CAP_B40900B5477M000
pins: 1 P, 2 N

## ERJ-2GE0R00X
designator R?, comment 0R
SMD Chip Resistor, Jumper, 0 ohm, 100 mW, 0402 [1005 Metric], Thick Film, General Purpose; Mfr_Name: Panasonic; Manufacturer Part Number: ERJ-2GE0R00X; Resistance: 0mR; Power Rating: 100mW; Voltage Rating: 50V; Tolerance: 5%; Temperature Coefficient: 600ppm/°C; Supplier 1: Digikey; Manufacturer: Panasonic; RoHS: Yes; Category: Chip SMD Resistors; Stock 1: 8056182; Pricing 1: 1=0.1, 10=0.024, 25=0.0184, 50=0.014, 100=0.0098, 250=0.00788, 500=0.0063, 1000=0.00464, 5000=0.00333 (USD); Mount: Surface Mount; Case/Package: 0402; Number of Pins: 2NUMBER; Contact Plating: Tin; Case Code (Metric): 1005; Case Code (Imperial): 0402; Size Code: 0402; Min Operating Temperature: -55°C; Max Operating Temperature: 155°C; Resistor Type: Thick Film; Packaging: Cut Tape; Package Quantity: 10000; Number of Terminations: 2; Termination: SMD/SMT; Max Power Dissipation: 100mW; Features: Automotive AEC-Q200; Series: ERJ; Construction: Rectangular; Technology: THICK FILM; Voltage Rating (DC): 50V; Length: 1mm; Width: 0.5mm; Height: 0.35mm; Depth: 0.5mm; Ratings: AEC-Q200; Radiation Hardening: No; Reach SVHC Compliant: No; Military Standard: Not; RoHS Compliant: Yes; Lead Free: 5697LeadFree; ComponentLink1URL: https://datasheet.ciiva.com/11821/0900766b80f806dd-11821176.pdf?src-supplier=Rs; ComponentLink1Description: https://datasheet.ciiva.com/11821/0900766b80f806dd-11821176.pdf?src-supplier=Rs; ComponentLink2URL: https://datasheet.ciiva.com/46389/1678796-46389518.pdf?src-supplier=Element14; ComponentLink2Description: https://datasheet.ciiva.com/46389/1678796-46389518.pdf?src-supplier=Element14; ComponentLink3URL: https://datasheet.ciiva.com/28695/1678796-28695758.pdf?src-supplier=Element14; ComponentLink3Description: https://datasheet.ciiva.com/28695/1678796-28695758.pdf?src-supplier=Element14; ComponentLink4URL: https://datasheet.ciiva.com/16778/70260739-16778335.pdf?src-supplier=Allied+Electronics; ComponentLink4Description: https://datasheet.ciiva.com/16778/70260739-16778335.pdf?src-supplier=Allied+Electronics; ComponentLink5URL: https://datasheet.ciiva.com/48531/aoa0000ce1-48531077.pdf?src-supplier=Avnet; ComponentLink5Description: https://datasheet.ciiva.com/48531/aoa0000ce1-48531077.pdf?src-supplier=Avnet; ComponentLink6URL: https://datasheet.ciiva.com/30097/4aoa0000ce1-30097116.pdf?src-supplier=Onlinecomponents.com; ComponentLink6Description: https://datasheet.ciiva.com/30097/4aoa0000ce1-30097116.pdf?src-supplier=Onlinecomponents.com; ComponentLink7URL: https://datasheet.ciiva.com/43460/1678796-43460347.pdf?src-supplier=Farnell; ComponentLink7Description: https://datasheet.ciiva.com/43460/1678796-43460347.pdf?src-supplier=Farnell; ComponentLink8URL: https://datasheet.ciiva.com/5959/1678796-5959692.pdf?src-supplier=Farnell; ComponentLink8Description: https://datasheet.ciiva.com/5959/1678796-5959692.pdf?src-supplier=Farnell; ComponentLink9URL: https://datasheet.ciiva.com/16783/70260739-16783734.pdf?src-supplier=Allied+Electronics; ComponentLink9Description: https://datasheet.ciiva.com/16783/70260739-16783734.pdf?src-supplier=Allied+Electronics; Supplier Part Number 1: P0.0JCT-ND
footprint RC0402N_PAN
pins: 1, 2

## ERJ-3GEY0R00V
designator R?, comment 0R
Res Thick Film 0603 0 Ohm Molded SMD SMD Punched Carrier T/R
footprint R0603
pins: 1, 2

## FID_1MMC
designator FID?  (value not drawn)  (no BOM)
Fiducial 40mil Diameter, 120mil Mask
footprint FID_40X120D

## GRPB031VWVN-RC
designator JP?, comment HDR 1X3 (1.27mm)
Male, 3 C, Straight, .050" CC; 3.00mm Head/2.30mm Tail, No Mt; Nylon 9T, Brass, 105 C; Manufacturer: Sullins; Manufacturer Part Number: GRPB031VWVN-RC; Number of Positions: 3; Connector Type: Header; Supplier 1: Digikey; RoHS: Yes; Category: Connectors; Stock 1: 29128; Pricing 1: 1=0.28, 10=0.238, 100=0.185, 500=0.15862, 1000=0.13218, 5000=0.1133, 10000=0.1079 (USD); Mount: Through Hole; Contact Material: Brass; Contact Shape: Square; Contact Finish - Mating: GOLD; Insulation Material: Nylon; Min Operating Temperature: -40°C; Max Operating Temperature: 105°C; Number of Rows: 1; Packaging: Bulk; Termination: Solder; Contact Type: Male Pin; Fastening Type: Pull; Series: -; Pitch: 1.27mm; Lead Free: Lead Free; RoHS Compliant: Yes; Flammability Rating: UL94 V-0; ComponentLink1URL: https://datasheet.ciiva.com/726/71-grpb-1vwvn-rc-10957-c-726649.pdf?src-supplier=Digikey; ComponentLink1Description: https://datasheet.ciiva.com/726/71-grpb-1vwvn-rc-10957-c-726649.pdf?src-supplier=Digikey; Supplier Part Number 1: S9014E-03-ND
footprint CONN_GRPB031VWVN-RC_SUL
pins: 1, 2, 3

## Header_1x4
designator P?, comment Header 1x4
Conn Unshrouded Header HDR 4 POS 2.54mm Solder ST Thru-Hole Bag; Manufacturer: Amphenol ICC; Manufacturer Part Number: 68001-204HLF; Supplier 1: Digi-Key; Stock 1: 0; Supplier Part Number 1: 609-3402-ND
footprint Header_1x4_2.54mm
pins: 1, 2, 3, 4

## IRLML2502
designator Q?  Supplier Part Number 1: IRLML2502TRPBFCT-ND
Transistor: N-MOSFET; unipolar; 12V; 4.3A; 0.05ohm; 1.3W; -55+150 deg.C; SMD; SOT23; Manufacturer: Infineon; Manufacturer Part Number: IRLML2502TRPBF; MF: Infineon Technologies; Current Rating: 4.2A; Dual Supply Voltage: 20V; Fall Time: 26ns; Nominal Vgs: 1.2V; Number of Elements: 1NUMBER; On-State Resistance: 45mR; Check_prices: https://www.snapeda.com/parts/IRLML2502/Infineon+Technologies/view-part/?ref=eda; Value: *; SnapEDA_Link: https://www.snapeda.com/parts/IRLML2502/Infineon+Technologies/view-part/?ref=snap; Package: SOT-23-3 International Rectifier; Availability: Not in stock; Price: None; MP: IRLML2502; Supplier 1: Digikey; RoHS: Yes; Category: MOSFETs; Stock 1: 100740; Pricing 1: 1=0.42, 10=0.358, 100=0.2492, 500=0.19458, 1000=0.15815 (USD); Package Quantity: 3000NUMBER; Resistance: 45mR; Termination: 4890ConnectorType; Threshold Voltage: 1.2V; Voltage Rating (DC): 20V; Radiation Hardening: 5898YesNo
footprint SOT95P237X112-3N
pins: 1 G, 2 S, 3 D

## IRLML6402TRPBF
designator Q?  Supplier Part Number 1: IRLML6402PBFCT-ND
Transistor: N-MOSFET, unipolar, -20V, -2.3A, 0.065ohm, 1.3W, -55+150 deg.C, SMD, SOT23; MF: Infineon; Continuous Drain Current (ID): 3.7A; Input Capacitance: 633pF; Gate to Source Voltage (Vgs): 12V; Current Rating: -3.7A; Nominal Vgs: -550mV; Rds On Max: 65mR; Polarity: P-CHANNEL; Number of Channels: 1; Fall Time: 381ns; Package: SOT-23 Infineon; Value: *; Price: None; MP: IRLML6402TRPBF; SnapEDA_Link: https://www.snapeda.com/parts/IRLML6402TRPBF/Infineon%20Technologies/view-part/523558/?ref=snap; Availability: Unavailable; Supplier 1: Digikey; Manufacturer: Infineon; Manufacturer Part Number: IRLML6402TRPBF; RoHS: Yes; Category: MOSFETs; Stock 1: 130036; Pricing 1: 1=0.46, 10=0.359, 100=0.2152, 500=0.19922, 1000=0.13547 (USD); Mount: Surface Mount; Case/Package: SOT-23; Weight: 0.001446oz; Min Operating Temperature: -55°C; Max Operating Temperature: 150°C; Drain to Source Voltage (Vdss): -20V; Max Power Dissipation: 1.3W; Max Dual Supply Voltage: -20V; Dual Supply Voltage: -20V; Termination: SMD/SMT; Voltage Rating (DC): -20V; Packaging: Cut Tape; Drain to Source Resistance: 65mR; Package Quantity: 3000; Series: HEXFET®; Number of Elements: 1; On-State Resistance: 65mR; Resistance: 65mR; Length: 2.9mm; Width: 1.3mm; Height: 1.1mm; Radiation Hardening: No; Lead Free: Lead Free; RoHS Compliant: Yes; Halogen Free: Halogen Free; ComponentLink1URL: http://www.farnell.com/datasheets/1912232.pdf?src-supplier=Farnell; ComponentLink1Description: http://www.farnell.com/datasheets/1912232.pdf?src-supplier=Farnell; ComponentLink2URL: https://www.alliedelec.com/m/d/4b3100bfefb448abdd9f33c6fb7874b9.pdf?src-supplier=Allied+Electronics; ComponentLink2Description: https://www.alliedelec.com/m/d/4b3100bfefb448abdd9f33c6fb7874b9.pdf?src-supplier=Allied+Electronics; ComponentLink3URL: http://datasheet.octopart.com/IRLML6402TRPBF-Infineon-datasheet-93882.pdf?src-supplier=Rs; ComponentLink3Description: http://datasheet.octopart.com/IRLML6402TRPBF-Infineon-datasheet-93882.pdf?src-supplier=Rs; ComponentLink4URL: https://datasheet.octopart.com/IRLML6402TRPBF-Infineon-datasheet-93882.pdf?src-supplier=Element14; ComponentLink4Description: https://datasheet.octopart.com/IRLML6402TRPBF-Infineon-datasheet-93882.pdf?src-supplier=Element14; ComponentLink5URL: http://www.farnell.com/datasheets/1912232.pdf?src-supplier=Element14; ComponentLink5Description: http://www.farnell.com/datasheets/1912232.pdf?src-supplier=Element14; ComponentLink6URL: http://datasheet.octopart.com/IRLML6402TRPBF-Infineon-datasheet-93882.pdf?src-supplier=Future+Electronics; ComponentLink6Description: http://datasheet.octopart.com/IRLML6402TRPBF-Infineon-datasheet-93882.pdf?src-supplier=Future+Electronics; ComponentLink7URL: http://www.farnell.com/datasheets/1912232.pdf?src-supplier=Newark; ComponentLink7Description: http://www.farnell.com/datasheets/1912232.pdf?src-supplier=Newark; ComponentLink8URL: https://datasheet.octopart.com/IRLML6402TRPBF-International-Rectifier-datasheet-63679.pdf?src-supplier=Farnell; ComponentLink8Description: https://datasheet.octopart.com/IRLML6402TRPBF-International-Rectifier-datasheet-63679.pdf?src-supplier=Farnell; ComponentLink9URL: https://datasheet.octopart.com/IRLML6402TRPBF-Infineon-datasheet-34171439.pdf?src-supplier=Newark; ComponentLink9Description: https://datasheet.octopart.com/IRLML6402TRPBF-Infineon-datasheet-34171439.pdf?src-supplier=Newark
footprint SOT95P237X112-3N
pins: 1 G, 2 S, 3 D

## LDO_3.3
designator U?, comment AMS1117-3.3
72dB@(120Hz) 1A Fixed 3.3V Positive electrode SOT-223-3 Linear Voltage Regulators (LDO) ROHS
footprint AMS1117-3.3 (SOT223, 4-Leads, Body 6.51x7.00mm (avg), Pitch 2.29mm, IPC Medium Density)
pins: 1 IN, 2 ADJ, 3 OUT

## LED_Green
designator D?
LED Single Chip Green 570nm 20mA 2-Pin 0603 T/R; Manufacturer: Osram Opto; Manufacturer Part Number: LGL29K-G2J1-24-Z; Lens Color: White; Forward Voltage: 2.2V; Luminous Intensity: 5.6mcd; Viewing Angle: 160°; Lens Style: Flat,Diffused,Colorless,Rectangular; Test Current: 2mA; Luminous Flux: 0.012lm; Number of LEDs: 1; Lens Transparency: Diffused; Reverse Voltage: 12V; Lens Size: 0.8mm; Supplier 1: Digi-Key; Stock 1: 0; Mount: Surface Mount; Case/Package: 0603; Number of Pins: 2; Color: Green; Case Code (Metric): 1608; Case Code (Imperial): 0603; Min Operating Temperature: -40°C; Max Operating Temperature: 100°C; Illumination Color: Green; Forward Current: 20mA; Packaging: Tape and Reel; Package Quantity: 5000; Dominant Wavelength: 570nm; Number of Elements: 1; Series: SMARTLED® 0603; Length: 1.3mm; Width: 0.8mm; Height: 0.65mm; Depth: 0.8mm; Radiation Hardening: No; RoHS Compliant: Yes; ComponentLink1URL: https://dammedia.osram.info/media/resource/hires/osram-dam-2493945/LG%20L29K.pdf?src-supplier=Digi-Key; ComponentLink1Description: https://dammedia.osram.info/media/resource/hires/osram-dam-2493945/LG%20L29K.pdf?src-supplier=Digi-Key; ComponentLink2URL: http://www.mouser.com/ds/2/311/LG%20L29K%20-%20SMARTLED%200603-335234.pdf?src-supplier=Mouser; ComponentLink2Description: http://www.mouser.com/ds/2/311/LG%20L29K%20-%20SMARTLED%200603-335234.pdf?src-supplier=Mouser; ComponentLink3URL: https://www.verical.com/server-webapp/html/getDatasheet?partID=571127&src-supplier=Verical; ComponentLink3Description: https://www.verical.com/server-webapp/html/getDatasheet?partID=571127&src-supplier=Verical; Supplier Part Number 1: 475-2709-1-ND
footprint LED_0603
pins: 1 Cathode, 2 Anode

## LED_Yellow
designator D?
WL-SMCW SMT Mono-Color Chip LED Waterclear; Manufacturer: Wurth Electronics; Manufacturer Part Number: 150060YS75000; Color: Yellow; Viewing Angle: 140°; Lens Style: Clear,Rectangular; Wavelength: 590nm; Luminous Intensity: 120mcd; Forward Voltage: 2V; Forward Current: 30mA; Test Current: 20mA; Max Reverse Voltage (DC): 5V; Power Dissipation: 72mW; Supplier 1: Digikey; RoHS: Yes; Category: LEDs; Stock 1: 52547; Pricing 1: 1=0.15, 50=0.142, 100=0.122, 500=0.105 (USD); Mount: Surface Mount; Case/Package: 0603; Case Code (Metric): 1608; Case Code (Imperial): 0603; Min Operating Temperature: -40°C; Max Operating Temperature: 85°C; Package Quantity: 1; Packaging: Cut Tape; Dominant Wavelength: 590nm; Series: WL-SMCW; Reverse Voltage: 5V; Length: 1.6mm; Width: 0.8mm; Height: 0.7mm; RoHS Compliant: Yes; Reach SVHC Compliant: Unknown; ComponentLink1URL: https://datasheet.ciiva.com/23843/150060ys75000-23843250.pdf?src-supplier=Newark; ComponentLink1Description: https://datasheet.ciiva.com/23843/150060ys75000-23843250.pdf?src-supplier=Newark; ComponentLink2URL: https://datasheet.ciiva.com/29279/759432-da-01-en-chipled-0603-w-kl-gelb-150060ys75000-29279206.pdf?src-supplier=Conrad; ComponentLink2Description: https://datasheet.ciiva.com/29279/759432-da-01-en-chipled-0603-w-kl-gelb-150060ys75000-29279206.pdf?src-supplier=Conrad; ComponentLink3URL: https://datasheet.ciiva.com/22656/1911348-22656951.pdf?src-supplier=Element14; ComponentLink3Description: https://datasheet.ciiva.com/22656/1911348-22656951.pdf?src-supplier=Element14; ComponentLink4URL: https://datasheet.ciiva.com/48430/150060ys75000-eng-tds-48430044.pdf?src-supplier=Distrelec; ComponentLink4Description: https://datasheet.ciiva.com/48430/150060ys75000-eng-tds-48430044.pdf?src-supplier=Distrelec; ComponentLink5URL: https://datasheet.ciiva.com/29563/150060ys75000-29563045.pdf?src-supplier=Digikey; ComponentLink5Description: https://datasheet.ciiva.com/29563/150060ys75000-29563045.pdf?src-supplier=Digikey; ComponentLink6URL: https://datasheet.ciiva.com/29563/150060ys75000-29563033.pdf?src-supplier=Digikey; ComponentLink6Description: https://datasheet.ciiva.com/29563/150060ys75000-29563033.pdf?src-supplier=Digikey; Supplier Part Number 1: 732-4981-1-ND
footprint LED_0603
pins: 1 Cathode, 2 Anode

## M50-3530242
designator J?
1.27mm (0.05") Pitch SIL Vertical Throughboard Pin Header, selective gold + tin, 2 contacts; Manufacturer_Name: Harwin; Geometry.Height: 4.2mm; Mouser Part Number: 855-M50-3530242; Mouser Price/Stock: https://www.mouser.co.uk/ProductDetail/Harwin/M50-3530242?qs=%252BdQmOuGyFcFfqfwYQe%2FxZw%3D%3D; Manufacturer_Part_Number: M50-3530242; Datasheet Link: https://cdn.harwin.com/pdfs/M50-353.pdf; Supplier 1: Digikey; Supplier Part Number 1: 952-3598-ND
footprint HDRV2W40P0X127_1X2_254X210X420P
pins: 1, 2

## MH_7.4MMC_3.2MMD
designator MH?  (value not drawn)  (no BOM)
Mounting Hole 7.4mm Diamater, 3.2mm Drill
footprint MH_7.2MMC_3.2MMD
pins: 1

## MH_Stud_Size_#0
designator MH?  (value not drawn)  (no BOM)
Mounting Hole 3.048mm Diamater, 1.524mm Drill
footprint MH_Stud_Size_#0
pins: 1

## MLF1005VR10JT000
designator L?, comment 100nH
Inductor General Purpose Shielded Multi-Layer 0.1uH 5% 25MHz 10Q-Factor Ferrite 0.18A 0.51Ohm DCR 0402 T/R; Manufacturer: TDK; MF: {'manufacturer': u'TDK Corporation'}; MP: MLF1005VR10JT000; Current Rating: 180mA; Shielding: Unshielded; DC Resistance (DCR): 510mR; Self Resonant Frequency: 450MHz; Package: None; Price: None; Value: *; Availability: Unavailable; Supplier 1: Digikey; Manufacturer Part Number: MLF1005VR10JT000; RoHS: No; Category: Fixed Inductors; Stock 1: 37843; Pricing 1: 1=0.23, 10=0.184, 25=0.17, 50=0.1558, 100=0.1374, 250=0.13312, 500=0.11896, 1000=0.0963, 2500=0.09064 (USD); Mount: Surface Mount; Case/Package: 0402; Case Code (Metric): 1005; Case Code (Imperial): 0402; Core Material: Ferrite; Min Operating Temperature: -55°C; Max Operating Temperature: 125°C; Package Quantity: 1; Packaging: Cut Tape; Tolerance: 5%; Inductance: 100nH; Test Frequency: 25MHz; Series: MLF-J; Length: 0.039inch; Width: 0.02inch; Height - Seated (Max): 0.022inch; RoHS Compliant: No; ComponentLink1URL: https://datasheet.ciiva.com/29698/inductor-commercial-standard-mlf-en-29698013.pdf?src-supplier=Digikey; ComponentLink1Description: https://datasheet.ciiva.com/29698/inductor-commercial-standard-mlf-en-29698013.pdf?src-supplier=Digikey; ComponentLink2URL: https://datasheet.ciiva.com/29698/inductor-commercial-standard-mlf-en-29698014.pdf?src-supplier=Digikey; ComponentLink2Description: https://datasheet.ciiva.com/29698/inductor-commercial-standard-mlf-en-29698014.pdf?src-supplier=Digikey; ComponentLink3URL: https://datasheet.ciiva.com/29698/inductor-commercial-standard-mlf-en-29698015.pdf?src-supplier=Digikey; ComponentLink3Description: https://datasheet.ciiva.com/29698/inductor-commercial-standard-mlf-en-29698015.pdf?src-supplier=Digikey; Supplier Part Number 1: 445-15700-1-ND
footprint IND_MLF1005VR10JT000
pins: 1, 2